# Altium integrated library Analog Devices Amplifiers and Linear Voltage References.IntLib: 547 symbols (part 11 of 20)
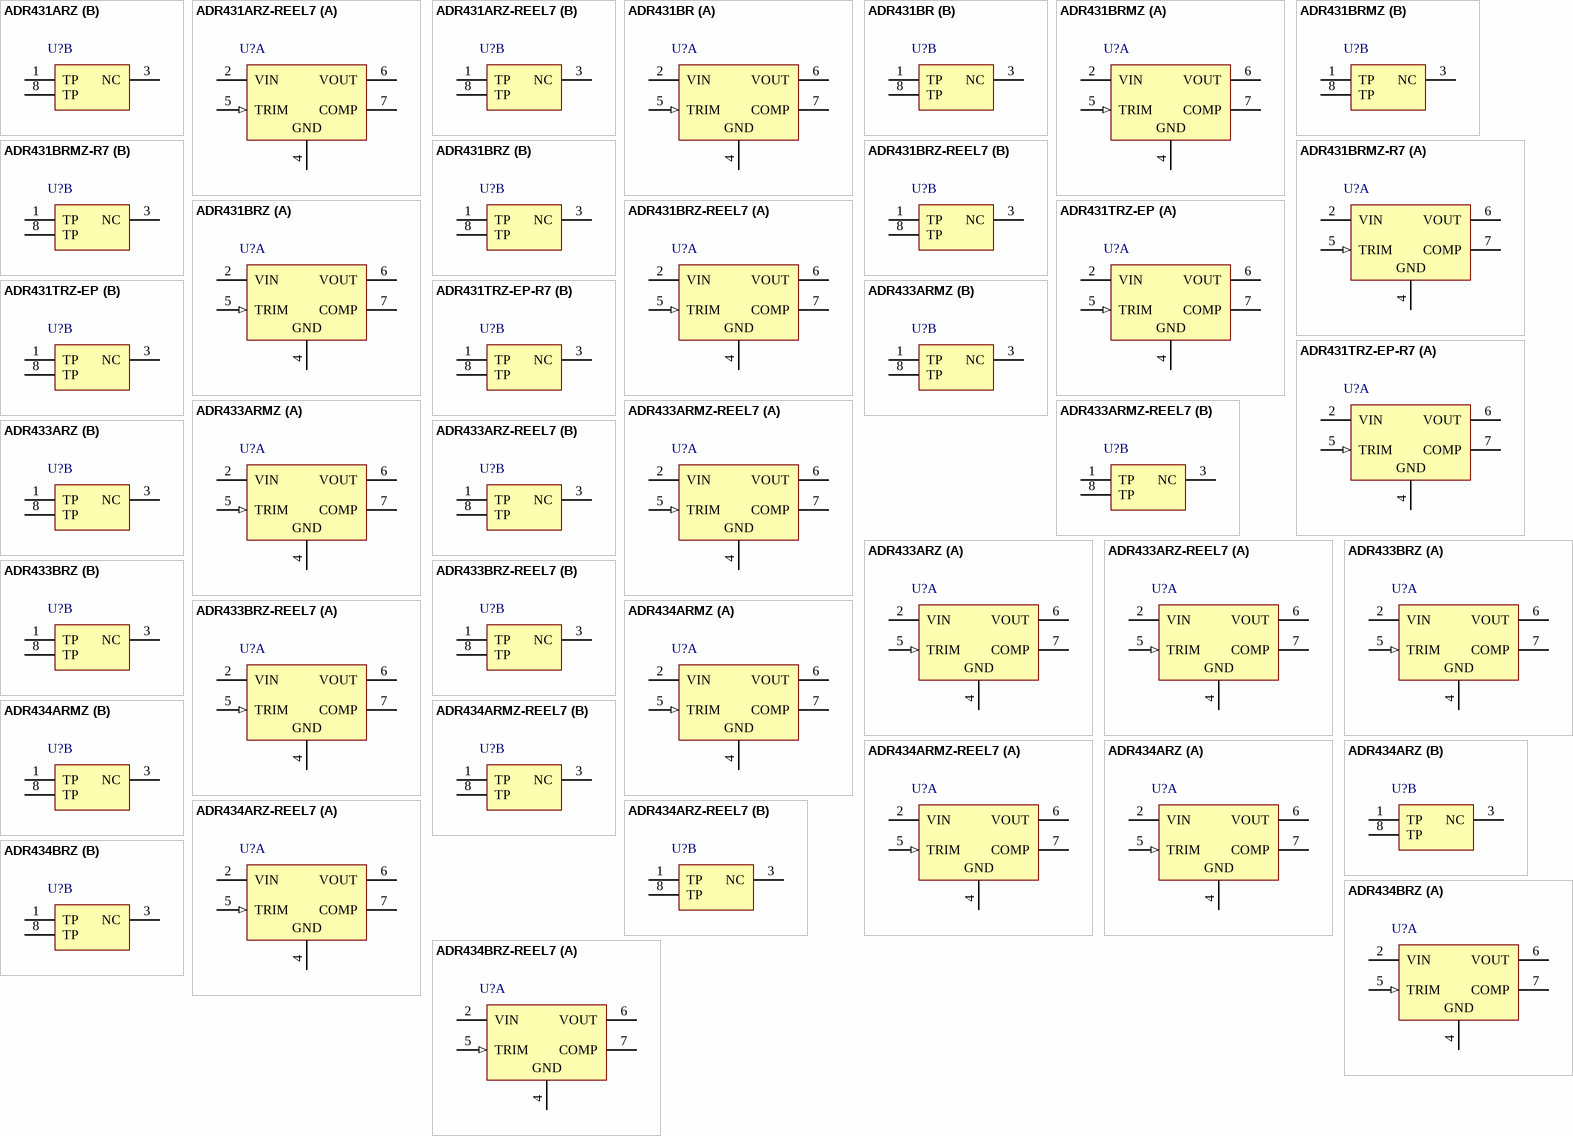
[diagram p30: symbols ADR431ARZ to ADR434BRZ-REEL7]

## ADR431BR
designator U?
Ultralow Noise XFET Voltage Reference with Current Sink and Source Capability, 2.5 V Output, 4.5 to 18 V Supply, Industrial, 8-pin SOIC (R-8), Tube; Manufacturer: Analog Devices; PartNumber: ADR431BR; Max V Supply (V): 18; Min V Supply (V): 4.5; Ref Out TC (ppm/C): 1; Vout: 2.5V; DatasheetVersion: Rev. J; PackageVersion: 060506-A, 06/2006; PackageReference: R-8; PackageDescription: 8-Pin Standard Small Outline Package, Body 4.9 x 3.9 mm, Pitch 1.27 mm; Supplier 1: Digi-Key; Supplier Part Number 1: ADR431BR-ND; Packing: Tube; Operating Temp Range: -40 to 125 degC; Mounting Technology: Surface Mount; Code_JEDEC: MS-012-AA; ComponentLink1Description: Manufacturer URL; ComponentLink1URL: http://www.analog.com/en/index.html; ComponentLink2Description: Datasheet; ComponentLink2URL: http://www.analog.com/static/imported-files/data_sheets/ADR430_431_433_434_435_439.pdf; ComponentLink3Description: Package Specification; ComponentLink3URL: http://www.analog.com/static/imported-files/packages/PKG_PDF/SOIC_Narrow%20(R)/R_8.pdf; ComponentLink4Description: URL Link1; ComponentLink4URL: Product URL:http://www.analog.com/en/special-linear-functions/voltage-references/adr431/products/product.html
footprint ADI-R-8_N (SOIC, 8-Leads, Body 4.9x3.9mm, Pitch 1.27mm, IPC Medium Density)
footprint ADI-R-8_L (SOIC, 8-Leads, Body 4.9x3.9mm, Pitch 1.27mm, IPC High Density)
footprint ADI-R-8_M (SOIC, 8-Leads, Body 4.9x3.9mm, Pitch 1.27mm, IPC Low Density)
part A pins: 2 VIN (power), 4 GND (power), 5 TRIM (in), 6 VOUT (power), 7 COMP
part B pins: 1 TP, 3 NC, 8 TP

## ADR431BRMZ
designator U?
Ultralow Noise XFET Voltage Reference with Current Sink and Source Capability, 2.5 V Output, 4.5 to 18 V Supply, Industrial, 8-pin SOP (RM-8), Tube; Manufacturer: Analog Devices; PartNumber: ADR431BRMZ; Max V Supply (V): 18; Min V Supply (V): 4.5; Ref Out TC (ppm/C): 1; Vout: 2.5V; DatasheetVersion: Rev. J; PackageVersion: Aug-05; PackageReference: RM-8; PackageDescription: 8-Pin Mini Small Outline Package, Body 3 x 3 mm, Pitch 0.65 mm; Supplier 1: Digi-Key; Supplier Part Number 1: ADR431BRMZ-ND; Supplier 2: Mouser; Supplier Part Number 2: 584-ADR431BRMZ; Packing: Tube; Operating Temp Range: -40 to 125 degC; Mounting Technology: Surface Mount; Code_JEDEC: MO-187-AA; ComponentLink1Description: Manufacturer URL; ComponentLink1URL: http://www.analog.com/en/index.html; ComponentLink2Description: Datasheet; ComponentLink2URL: http://www.analog.com/static/imported-files/data_sheets/ADR430_431_433_434_435_439.pdf; ComponentLink3Description: Package Specification; ComponentLink3URL: http://www.analog.com/static/imported-files/packages/PKG_PDF/MSOP%28RM%29/RM_8.pdf; ComponentLink4Description: URL Link1; ComponentLink4URL: Product URL:http://www.analog.com/en/special-linear-functions/voltage-references/adr431/products/product.html
footprint ADI-RM-8_N (SOP, 8-Leads, Body 3x3mm, Pitch 0.65mm, IPC Medium Density)
footprint ADI-RM-8_L (SOP, 8-Leads, Body 3x3mm, Pitch 0.65mm, IPC High Density)
footprint ADI-RM-8_M (SOP, 8-Leads, Body 3x3mm, Pitch 0.65mm, IPC Low Density)
part A pins: 2 VIN (power), 4 GND (power), 5 TRIM (in), 6 VOUT (power), 7 COMP
part B pins: 1 TP, 3 NC, 8 TP

## ADR431BRMZ-R7
designator U?
Ultralow Noise XFET Voltage Reference with Current Sink and Source Capability, 2.5 V Output, 4.5 to 18 V Supply, Industrial, 8-pin SOP (RM-8), Reel; Manufacturer: Analog Devices; PartNumber: ADR431BRMZ-R7; Max V Supply (V): 18; Min V Supply (V): 4.5; Ref Out TC (ppm/C): 1; Vout: 2.5V; DatasheetVersion: Rev. J; PackageVersion: Aug-05; PackageReference: RM-8; PackageDescription: 8-Pin Mini Small Outline Package, Body 3 x 3 mm, Pitch 0.65 mm; Supplier 1: Digi-Key; Supplier Part Number 1: ADR431BRMZ-R7-ND; Supplier 2: Mouser; Supplier Part Number 2: 584-ADR431BRMZ-R7; Packing: Reel; Operating Temp Range: -40 to 125 degC; Mounting Technology: Surface Mount; Code_JEDEC: MO-187-AA; ComponentLink1Description: Manufacturer URL; ComponentLink1URL: http://www.analog.com/en/index.html; ComponentLink2Description: Datasheet; ComponentLink2URL: http://www.analog.com/static/imported-files/data_sheets/ADR430_431_433_434_435_439.pdf; ComponentLink3Description: Package Specification; ComponentLink3URL: http://www.analog.com/static/imported-files/packages/PKG_PDF/MSOP%28RM%29/RM_8.pdf; ComponentLink4Description: URL Link1; ComponentLink4URL: Product URL:http://www.analog.com/en/special-linear-functions/voltage-references/adr431/products/product.html
footprint ADI-RM-8_N (SOP, 8-Leads, Body 3x3mm, Pitch 0.65mm, IPC Medium Density)
footprint ADI-RM-8_L (SOP, 8-Leads, Body 3x3mm, Pitch 0.65mm, IPC High Density)
footprint ADI-RM-8_M (SOP, 8-Leads, Body 3x3mm, Pitch 0.65mm, IPC Low Density)
part A pins: 2 VIN (power), 4 GND (power), 5 TRIM (in), 6 VOUT (power), 7 COMP
part B pins: 1 TP, 3 NC, 8 TP

## ADR431BRZ
designator U?
Ultralow Noise XFET Voltage Reference with Current Sink and Source Capability, 2.5 V Output, 4.5 to 18 V Supply, Industrial, 8-pin SOIC (R-8), Tube; Manufacturer: Analog Devices; PartNumber: ADR431BRZ; Max V Supply (V): 18; Min V Supply (V): 4.5; Ref Out TC (ppm/C): 1; Vout: 2.5V; DatasheetVersion: Rev. J; PackageVersion: 060506-A, 06/2006; PackageReference: R-8; PackageDescription: 8-Pin Standard Small Outline Package, Body 4.9 x 3.9 mm, Pitch 1.27 mm; Supplier 1: Digi-Key; Supplier Part Number 1: ADR431BRZ-ND; Supplier 2: Farnell; Supplier Part Number 2: 1498664; Supplier 3: Mouser; Supplier Part Number 3: 584-ADR431BRZ; Packing: Tube; Operating Temp Range: -40 to 125 degC; Mounting Technology: Surface Mount; Code_JEDEC: MS-012-AA; ComponentLink1Description: Manufacturer URL; ComponentLink1URL: http://www.analog.com/en/index.html; ComponentLink2Description: Datasheet; ComponentLink2URL: http://www.analog.com/static/imported-files/data_sheets/ADR430_431_433_434_435_439.pdf; ComponentLink3Description: Package Specification; ComponentLink3URL: http://www.analog.com/static/imported-files/packages/PKG_PDF/SOIC_Narrow%20(R)/R_8.pdf; ComponentLink4Description: URL Link1; ComponentLink4URL: Product URL:http://www.analog.com/en/special-linear-functions/voltage-references/adr431/products/product.html
footprint ADI-R-8_N (SOIC, 8-Leads, Body 4.9x3.9mm, Pitch 1.27mm, IPC Medium Density)
footprint ADI-R-8_L (SOIC, 8-Leads, Body 4.9x3.9mm, Pitch 1.27mm, IPC High Density)
footprint ADI-R-8_M (SOIC, 8-Leads, Body 4.9x3.9mm, Pitch 1.27mm, IPC Low Density)
part A pins: 2 VIN (power), 4 GND (power), 5 TRIM (in), 6 VOUT (power), 7 COMP
part B pins: 1 TP, 3 NC, 8 TP

## ADR431BRZ-REEL7
designator U?
Ultralow Noise XFET Voltage Reference with Current Sink and Source Capability, 2.5 V Output, 4.5 to 18 V Supply, Industrial, 8-pin SOIC (R-8), Reel; Manufacturer: Analog Devices; PartNumber: ADR431BRZ-REEL7; Max V Supply (V): 18; Min V Supply (V): 4.5; Ref Out TC (ppm/C): 1; Vout: 2.5V; DatasheetVersion: Rev. J; PackageVersion: 060506-A, 06/2006; PackageReference: R-8; PackageDescription: 8-Pin Standard Small Outline Package, Body 4.9 x 3.9 mm, Pitch 1.27 mm; Supplier 1: Digi-Key; Supplier Part Number 1: ADR431BRZ-REEL7TR-ND; Supplier 2: Digi-Key; Supplier Part Number 2: ADR431BRZ-REEL7CT-ND; Supplier 3: Digi-Key; Supplier Part Number 3: ADR431BRZ-REEL7DKR-ND; Supplier 4: Mouser; Supplier Part Number 4: 584-ADR431BRZ-R7; Packing: Reel; Operating Temp Range: -40 to 125 degC; Mounting Technology: Surface Mount; Code_JEDEC: MS-012-AA; ComponentLink1Description: Manufacturer URL; ComponentLink1URL: http://www.analog.com/en/index.html; ComponentLink2Description: Datasheet; ComponentLink2URL: http://www.analog.com/static/imported-files/data_sheets/ADR430_431_433_434_435_439.pdf; ComponentLink3Description: Package Specification; ComponentLink3URL: http://www.analog.com/static/imported-files/packages/PKG_PDF/SOIC_Narrow%20(R)/R_8.pdf; ComponentLink4Description: URL Link1; ComponentLink4URL: Product URL:http://www.analog.com/en/special-linear-functions/voltage-references/adr431/products/product.html
footprint ADI-R-8_N (SOIC, 8-Leads, Body 4.9x3.9mm, Pitch 1.27mm, IPC Medium Density)
footprint ADI-R-8_L (SOIC, 8-Leads, Body 4.9x3.9mm, Pitch 1.27mm, IPC High Density)
footprint ADI-R-8_M (SOIC, 8-Leads, Body 4.9x3.9mm, Pitch 1.27mm, IPC Low Density)
part A pins: 2 VIN (power), 4 GND (power), 5 TRIM (in), 6 VOUT (power), 7 COMP
part B pins: 1 TP, 3 NC, 8 TP

## ADR431TRZ-EP
designator U?
Ultralow Noise XFET Voltage Reference with Current Sink and Source Capability, 2.5 V Output, 4.5 to 18 V Supply, Military, 8-pin SOIC (R-8), Tube; Manufacturer: Analog Devices; PartNumber: ADR431TRZ-EP; Max V Supply (V): 18; Min V Supply (V): 4.5; Ref Out TC (ppm/C): 1.5; Vout: 2.5V; DatasheetVersion: Rev. J; PackageVersion: 060506-A, 06/2006; PackageReference: R-8; PackageDescription: 8-Pin Standard Small Outline Package, Body 4.9 x 3.9 mm, Pitch 1.27 mm; Supplier 1: Mouser; Supplier Part Number 1: 584-ADR431TRZ-EP; Packing: Tube; Operating Temp Range: -40 to 125 degC; Mounting Technology: Surface Mount; Code_JEDEC: MS-012-AA; ComponentLink1Description: Manufacturer URL; ComponentLink1URL: http://www.analog.com/en/index.html; ComponentLink2Description: Datasheet; ComponentLink2URL: http://www.analog.com/static/imported-files/data_sheets/ADR430_431_433_434_435_439.pdf; ComponentLink3Description: Package Specification; ComponentLink3URL: http://www.analog.com/static/imported-files/packages/PKG_PDF/SOIC_Narrow%20(R)/R_8.pdf; ComponentLink4Description: URL Link1; ComponentLink4URL: Product URL:http://www.analog.com/en/special-linear-functions/voltage-references/adr431/products/product.html
footprint ADI-R-8_N (SOIC, 8-Leads, Body 4.9x3.9mm, Pitch 1.27mm, IPC Medium Density)
footprint ADI-R-8_L (SOIC, 8-Leads, Body 4.9x3.9mm, Pitch 1.27mm, IPC High Density)
footprint ADI-R-8_M (SOIC, 8-Leads, Body 4.9x3.9mm, Pitch 1.27mm, IPC Low Density)
part A pins: 2 VIN (power), 4 GND (power), 5 TRIM (in), 6 VOUT (power), 7 COMP
part B pins: 1 TP, 3 NC, 8 TP

## ADR431TRZ-EP-R7
designator U?
Ultralow Noise XFET Voltage Reference with Current Sink and Source Capability, 2.5 V Output, 4.5 to 18 V Supply, Military, 8-pin SOIC (R-8), Reel; Manufacturer: Analog Devices; PartNumber: ADR431TRZ-EP-R7; Max V Supply (V): 18; Min V Supply (V): 4.5; Ref Out TC (ppm/C): 1.5; Vout: 2.5V; DatasheetVersion: Rev. J; PackageVersion: 060506-A, 06/2006; PackageReference: R-8; PackageDescription: 8-Pin Standard Small Outline Package, Body 4.9 x 3.9 mm, Pitch 1.27 mm; Supplier 1: Digi-Key; Supplier Part Number 1: ADR431TRZ-EP-R7TR-ND; Supplier 2: Digi-Key; Supplier Part Number 2: ADR431TRZ-EP-R7CT-ND; Supplier 3: Digi-Key; Supplier Part Number 3: ADR431TRZ-EP-R7DKR-ND; Supplier 4: Mouser; Supplier Part Number 4: 584-ADR431TRZ-EP-R7; Packing: Reel; Operating Temp Range: -40 to 125 degC; Mounting Technology: Surface Mount; Code_JEDEC: MS-012-AA; ComponentLink1Description: Manufacturer URL; ComponentLink1URL: http://www.analog.com/en/index.html; ComponentLink2Description: Datasheet; ComponentLink2URL: http://www.analog.com/static/imported-files/data_sheets/ADR430_431_433_434_435_439.pdf; ComponentLink3Description: Package Specification; ComponentLink3URL: http://www.analog.com/static/imported-files/packages/PKG_PDF/SOIC_Narrow%20(R)/R_8.pdf; ComponentLink4Description: URL Link1; ComponentLink4URL: Product URL:http://www.analog.com/en/special-linear-functions/voltage-references/adr431/products/product.html
footprint ADI-R-8_N (SOIC, 8-Leads, Body 4.9x3.9mm, Pitch 1.27mm, IPC Medium Density)
footprint ADI-R-8_L (SOIC, 8-Leads, Body 4.9x3.9mm, Pitch 1.27mm, IPC High Density)
footprint ADI-R-8_M (SOIC, 8-Leads, Body 4.9x3.9mm, Pitch 1.27mm, IPC Low Density)
part A pins: 2 VIN (power), 4 GND (power), 5 TRIM (in), 6 VOUT (power), 7 COMP
part B pins: 1 TP, 3 NC, 8 TP

## ADR433ARMZ
designator U?
Ultralow Noise XFET Voltage Reference with Current Sink and Source Capability, 3 V Output, 5 to 18 V Supply, Industrial, 8-pin SOP (RM-8), Tube; Manufacturer: Analog Devices; PartNumber: ADR433ARMZ; Max V Supply (V): 18; Min V Supply (V): 5; Ref Out TC (ppm/C): 2; Vout: 3V; DatasheetVersion: Rev. J; PackageVersion: Aug-05; PackageReference: RM-8; PackageDescription: 8-Pin Mini Small Outline Package, Body 3 x 3 mm, Pitch 0.65 mm; Supplier 1: Digi-Key; Supplier Part Number 1: ADR433ARMZ-ND; Supplier 2: Farnell; Supplier Part Number 2: 2312795; Supplier 3: Mouser; Supplier Part Number 3: 584-ADR433ARMZ; Packing: Tube; Operating Temp Range: -40 to 125 degC; Mounting Technology: Surface Mount; Code_JEDEC: MO-187-AA; ComponentLink1Description: Manufacturer URL; ComponentLink1URL: http://www.analog.com/en/index.html; ComponentLink2Description: Datasheet; ComponentLink2URL: http://www.analog.com/static/imported-files/data_sheets/ADR430_431_433_434_435_439.pdf; ComponentLink3Description: Package Specification; ComponentLink3URL: http://www.analog.com/static/imported-files/packages/PKG_PDF/MSOP%28RM%29/RM_8.pdf; ComponentLink4Description: URL Link1; ComponentLink4URL: Product URL:http://www.analog.com/en/special-linear-functions/voltage-references/adr433/products/product.html
footprint ADI-RM-8_N (SOP, 8-Leads, Body 3x3mm, Pitch 0.65mm, IPC Medium Density)
footprint ADI-RM-8_L (SOP, 8-Leads, Body 3x3mm, Pitch 0.65mm, IPC High Density)
footprint ADI-RM-8_M (SOP, 8-Leads, Body 3x3mm, Pitch 0.65mm, IPC Low Density)
part A pins: 2 VIN (power), 4 GND (power), 5 TRIM (in), 6 VOUT (power), 7 COMP
part B pins: 1 TP, 3 NC, 8 TP

## ADR433ARMZ-REEL7
designator U?
Ultralow Noise XFET Voltage Reference with Current Sink and Source Capability, 3 V Output, 5 to 18 V Supply, Industrial, 8-pin SOP (RM-8), Reel; Manufacturer: Analog Devices; PartNumber: ADR433ARMZ-REEL7; Max V Supply (V): 18; Min V Supply (V): 5; Ref Out TC (ppm/C): 2; Vout: 3V; DatasheetVersion: Rev. J; PackageVersion: Aug-05; PackageReference: RM-8; PackageDescription: 8-Pin Mini Small Outline Package, Body 3 x 3 mm, Pitch 0.65 mm; Supplier 1: Digi-Key; Supplier Part Number 1: ADR433ARMZ-REEL7-ND; Supplier 2: Mouser; Supplier Part Number 2: 584-ADR433ARMZ-R7; Packing: Reel; Operating Temp Range: -40 to 125 degC; Mounting Technology: Surface Mount; Code_JEDEC: MO-187-AA; ComponentLink1Description: Manufacturer URL; ComponentLink1URL: http://www.analog.com/en/index.html; ComponentLink2Description: Datasheet; ComponentLink2URL: http://www.analog.com/static/imported-files/data_sheets/ADR430_431_433_434_435_439.pdf; ComponentLink3Description: Package Specification; ComponentLink3URL: http://www.analog.com/static/imported-files/packages/PKG_PDF/MSOP%28RM%29/RM_8.pdf; ComponentLink4Description: URL Link1; ComponentLink4URL: Product URL:http://www.analog.com/en/special-linear-functions/voltage-references/adr433/products/product.html
footprint ADI-RM-8_N (SOP, 8-Leads, Body 3x3mm, Pitch 0.65mm, IPC Medium Density)
footprint ADI-RM-8_L (SOP, 8-Leads, Body 3x3mm, Pitch 0.65mm, IPC High Density)
footprint ADI-RM-8_M (SOP, 8-Leads, Body 3x3mm, Pitch 0.65mm, IPC Low Density)
part A pins: 2 VIN (power), 4 GND (power), 5 TRIM (in), 6 VOUT (power), 7 COMP
part B pins: 1 TP, 3 NC, 8 TP

## ADR433ARZ
designator U?
Ultralow Noise XFET Voltage Reference with Current Sink and Source Capability, 3 V Output, 5 to 18 V Supply, Industrial, 8-pin SOIC (R-8), Tube; Manufacturer: Analog Devices; PartNumber: ADR433ARZ; Max V Supply (V): 18; Min V Supply (V): 5; Ref Out TC (ppm/C): 2; Vout: 3V; DatasheetVersion: Rev. J; PackageVersion: 060506-A, 06/2006; PackageReference: R-8; PackageDescription: 8-Pin Standard Small Outline Package, Body 4.9 x 3.9 mm, Pitch 1.27 mm; Supplier 1: Digi-Key; Supplier Part Number 1: ADR433ARZ-ND; Supplier 2: Farnell; Supplier Part Number 2: 1498665; Supplier 3: Mouser; Supplier Part Number 3: 584-ADR433ARZ; Packing: Tube; Operating Temp Range: -40 to 125 degC; Mounting Technology: Surface Mount; Code_JEDEC: MS-012-AA; ComponentLink1Description: Manufacturer URL; ComponentLink1URL: http://www.analog.com/en/index.html; ComponentLink2Description: Datasheet; ComponentLink2URL: http://www.analog.com/static/imported-files/data_sheets/ADR430_431_433_434_435_439.pdf; ComponentLink3Description: Package Specification; ComponentLink3URL: http://www.analog.com/static/imported-files/packages/PKG_PDF/SOIC_Narrow%20(R)/R_8.pdf; ComponentLink4Description: URL Link1; ComponentLink4URL: Product URL:http://www.analog.com/en/special-linear-functions/voltage-references/adr433/products/product.html
footprint ADI-R-8_N (SOIC, 8-Leads, Body 4.9x3.9mm, Pitch 1.27mm, IPC Medium Density)
footprint ADI-R-8_L (SOIC, 8-Leads, Body 4.9x3.9mm, Pitch 1.27mm, IPC High Density)
footprint ADI-R-8_M (SOIC, 8-Leads, Body 4.9x3.9mm, Pitch 1.27mm, IPC Low Density)
part A pins: 2 VIN (power), 4 GND (power), 5 TRIM (in), 6 VOUT (power), 7 COMP
part B pins: 1 TP, 3 NC, 8 TP

## ADR433ARZ-REEL7
designator U?
Ultralow Noise XFET Voltage Reference with Current Sink and Source Capability, 3 V Output, 5 to 18 V Supply, Industrial, 8-pin SOIC (R-8), Reel; Manufacturer: Analog Devices; PartNumber: ADR433ARZ-REEL7; Max V Supply (V): 18; Min V Supply (V): 5; Ref Out TC (ppm/C): 2; Vout: 3V; DatasheetVersion: Rev. J; PackageVersion: 060506-A, 06/2006; PackageReference: R-8; PackageDescription: 8-Pin Standard Small Outline Package, Body 4.9 x 3.9 mm, Pitch 1.27 mm; Supplier 1: Digi-Key; Supplier Part Number 1: ADR433ARZ-REEL7-ND; Supplier 2: Mouser; Supplier Part Number 2: 584-ADR433ARZ-R7; Packing: Reel; Operating Temp Range: -40 to 125 degC; Mounting Technology: Surface Mount; Code_JEDEC: MS-012-AA; ComponentLink1Description: Manufacturer URL; ComponentLink1URL: http://www.analog.com/en/index.html; ComponentLink2Description: Datasheet; ComponentLink2URL: http://www.analog.com/static/imported-files/data_sheets/ADR430_431_433_434_435_439.pdf; ComponentLink3Description: Package Specification; ComponentLink3URL: http://www.analog.com/static/imported-files/packages/PKG_PDF/SOIC_Narrow%20(R)/R_8.pdf; ComponentLink4Description: URL Link1; ComponentLink4URL: Product URL:http://www.analog.com/en/special-linear-functions/voltage-references/adr433/products/product.html
footprint ADI-R-8_N (SOIC, 8-Leads, Body 4.9x3.9mm, Pitch 1.27mm, IPC Medium Density)
footprint ADI-R-8_L (SOIC, 8-Leads, Body 4.9x3.9mm, Pitch 1.27mm, IPC High Density)
footprint ADI-R-8_M (SOIC, 8-Leads, Body 4.9x3.9mm, Pitch 1.27mm, IPC Low Density)
part A pins: 2 VIN (power), 4 GND (power), 5 TRIM (in), 6 VOUT (power), 7 COMP
part B pins: 1 TP, 3 NC, 8 TP

## ADR433BRZ
designator U?
Ultralow Noise XFET Voltage Reference with Current Sink and Source Capability, 3 V Output, 5 to 18 V Supply, Industrial, 8-pin SOIC (R-8), Tube; Manufacturer: Analog Devices; PartNumber: ADR433BRZ; Max V Supply (V): 18; Min V Supply (V): 5; Ref Out TC (ppm/C): 1; Vout: 3V; DatasheetVersion: Rev. J; PackageVersion: 060506-A, 06/2006; PackageReference: R-8; PackageDescription: 8-Pin Standard Small Outline Package, Body 4.9 x 3.9 mm, Pitch 1.27 mm; Supplier 1: Digi-Key; Supplier Part Number 1: ADR433BRZ-ND; Supplier 2: Farnell; Supplier Part Number 2: 1498667; Supplier 3: Mouser; Supplier Part Number 3: 584-ADR433BRZ; Packing: Tube; Operating Temp Range: -40 to 125 degC; Mounting Technology: Surface Mount; Code_JEDEC: MS-012-AA; ComponentLink1Description: Manufacturer URL; ComponentLink1URL: http://www.analog.com/en/index.html; ComponentLink2Description: Datasheet; ComponentLink2URL: http://www.analog.com/static/imported-files/data_sheets/ADR430_431_433_434_435_439.pdf; ComponentLink3Description: Package Specification; ComponentLink3URL: http://www.analog.com/static/imported-files/packages/PKG_PDF/SOIC_Narrow%20(R)/R_8.pdf; ComponentLink4Description: URL Link1; ComponentLink4URL: Product URL:http://www.analog.com/en/special-linear-functions/voltage-references/adr433/products/product.html
footprint ADI-R-8_N (SOIC, 8-Leads, Body 4.9x3.9mm, Pitch 1.27mm, IPC Medium Density)
footprint ADI-R-8_L (SOIC, 8-Leads, Body 4.9x3.9mm, Pitch 1.27mm, IPC High Density)
footprint ADI-R-8_M (SOIC, 8-Leads, Body 4.9x3.9mm, Pitch 1.27mm, IPC Low Density)
part A pins: 2 VIN (power), 4 GND (power), 5 TRIM (in), 6 VOUT (power), 7 COMP
part B pins: 1 TP, 3 NC, 8 TP

## ADR433BRZ-REEL7
designator U?
Ultralow Noise XFET Voltage Reference with Current Sink and Source Capability, 3 V Output, 5 to 18 V Supply, Industrial, 8-pin SOIC (R-8), Reel; Manufacturer: Analog Devices; PartNumber: ADR433BRZ-REEL7; Max V Supply (V): 18; Min V Supply (V): 5; Ref Out TC (ppm/C): 1; Vout: 3V; DatasheetVersion: Rev. J; PackageVersion: 060506-A, 06/2006; PackageReference: R-8; PackageDescription: 8-Pin Standard Small Outline Package, Body 4.9 x 3.9 mm, Pitch 1.27 mm; Supplier 1: Digi-Key; Supplier Part Number 1: ADR433BRZ-REEL7-ND; Supplier 2: Mouser; Supplier Part Number 2: 584-ADR433BRZ-R7; Packing: Reel; Operating Temp Range: -40 to 125 degC; Mounting Technology: Surface Mount; Code_JEDEC: MS-012-AA; ComponentLink1Description: Manufacturer URL; ComponentLink1URL: http://www.analog.com/en/index.html; ComponentLink2Description: Datasheet; ComponentLink2URL: http://www.analog.com/static/imported-files/data_sheets/ADR430_431_433_434_435_439.pdf; ComponentLink3Description: Package Specification; ComponentLink3URL: http://www.analog.com/static/imported-files/packages/PKG_PDF/SOIC_Narrow%20(R)/R_8.pdf; ComponentLink4Description: URL Link1; ComponentLink4URL: Product URL:http://www.analog.com/en/special-linear-functions/voltage-references/adr433/products/product.html
footprint ADI-R-8_N (SOIC, 8-Leads, Body 4.9x3.9mm, Pitch 1.27mm, IPC Medium Density)
footprint ADI-R-8_L (SOIC, 8-Leads, Body 4.9x3.9mm, Pitch 1.27mm, IPC High Density)
footprint ADI-R-8_M (SOIC, 8-Leads, Body 4.9x3.9mm, Pitch 1.27mm, IPC Low Density)
part A pins: 2 VIN (power), 4 GND (power), 5 TRIM (in), 6 VOUT (power), 7 COMP
part B pins: 1 TP, 3 NC, 8 TP

## ADR434ARMZ
designator U?
Ultralow Noise XFET Voltage Reference with Current Sink and Source Capability, 4.096 V Output, 6.1 to 18 V Supply, Industrial, 8-pin SOP (RM-8), Tube; Manufacturer: Analog Devices; PartNumber: ADR434ARMZ; Max V Supply (V): 18; Min V Supply (V): 6.1; Ref Out TC (ppm/C): 2; Vout: 4.096V; DatasheetVersion: Rev. J; PackageVersion: Aug-05; PackageReference: RM-8; PackageDescription: 8-Pin Mini Small Outline Package, Body 3 x 3 mm, Pitch 0.65 mm; Supplier 1: Digi-Key; Supplier Part Number 1: ADR434ARMZ-ND; Supplier 2: Farnell; Supplier Part Number 2: 2377048; Supplier 3: Farnell; Supplier Part Number 3: 2312796; Supplier 4: Mouser; Supplier Part Number 4: 584-ADR434ARMZ; Packing: Tube; Operating Temp Range: -40 to 125 degC; Mounting Technology: Surface Mount; Code_JEDEC: MO-187-AA; ComponentLink1Description: Manufacturer URL; ComponentLink1URL: http://www.analog.com/en/index.html; ComponentLink2Description: Datasheet; ComponentLink2URL: http://www.analog.com/static/imported-files/data_sheets/ADR430_431_433_434_435_439.pdf; ComponentLink3Description: Package Specification; ComponentLink3URL: http://www.analog.com/static/imported-files/packages/PKG_PDF/MSOP%28RM%29/RM_8.pdf; ComponentLink4Description: URL Link1; ComponentLink4URL: Product URL:http://www.analog.com/en/special-linear-functions/voltage-references/adr434/products/product.html
footprint ADI-RM-8_N (SOP, 8-Leads, Body 3x3mm, Pitch 0.65mm, IPC Medium Density)
footprint ADI-RM-8_L (SOP, 8-Leads, Body 3x3mm, Pitch 0.65mm, IPC High Density)
footprint ADI-RM-8_M (SOP, 8-Leads, Body 3x3mm, Pitch 0.65mm, IPC Low Density)
part A pins: 2 VIN (power), 4 GND (power), 5 TRIM (in), 6 VOUT (power), 7 COMP
part B pins: 1 TP, 3 NC, 8 TP

## ADR434ARMZ-REEL7
designator U?
Ultralow Noise XFET Voltage Reference with Current Sink and Source Capability, 4.096 V Output, 6.1 to 18 V Supply, Industrial, 8-pin SOP (RM-8), Reel; Manufacturer: Analog Devices; PartNumber: ADR434ARMZ-REEL7; Max V Supply (V): 18; Min V Supply (V): 6.1; Ref Out TC (ppm/C): 2; Vout: 4.096V; DatasheetVersion: Rev. J; PackageVersion: Aug-05; PackageReference: RM-8; PackageDescription: 8-Pin Mini Small Outline Package, Body 3 x 3 mm, Pitch 0.65 mm; Supplier 1: Digi-Key; Supplier Part Number 1: ADR434ARMZ-REEL7-ND; Supplier 2: Mouser; Supplier Part Number 2: 584-ADR434ARMZ-R7; Packing: Reel; Operating Temp Range: -40 to 125 degC; Mounting Technology: Surface Mount; Code_JEDEC: MO-187-AA; ComponentLink1Description: Manufacturer URL; ComponentLink1URL: http://www.analog.com/en/index.html; ComponentLink2Description: Datasheet; ComponentLink2URL: http://www.analog.com/static/imported-files/data_sheets/ADR430_431_433_434_435_439.pdf; ComponentLink3Description: Package Specification; ComponentLink3URL: http://www.analog.com/static/imported-files/packages/PKG_PDF/MSOP%28RM%29/RM_8.pdf; ComponentLink4Description: URL Link1; ComponentLink4URL: Product URL:http://www.analog.com/en/special-linear-functions/voltage-references/adr434/products/product.html
footprint ADI-RM-8_N (SOP, 8-Leads, Body 3x3mm, Pitch 0.65mm, IPC Medium Density)
footprint ADI-RM-8_L (SOP, 8-Leads, Body 3x3mm, Pitch 0.65mm, IPC High Density)
footprint ADI-RM-8_M (SOP, 8-Leads, Body 3x3mm, Pitch 0.65mm, IPC Low Density)
part A pins: 2 VIN (power), 4 GND (power), 5 TRIM (in), 6 VOUT (power), 7 COMP
part B pins: 1 TP, 3 NC, 8 TP

## ADR434ARZ
designator U?
Ultralow Noise XFET Voltage Reference with Current Sink and Source Capability, 4.096 V Output, 6.1 to 18 V Supply, Industrial, 8-pin SOIC (R-8), Tube; Manufacturer: Analog Devices; PartNumber: ADR434ARZ; Max V Supply (V): 18; Min V Supply (V): 6.1; Ref Out TC (ppm/C): 2; Vout: 4.096V; DatasheetVersion: Rev. J; PackageVersion: 060506-A, 06/2006; PackageReference: R-8; PackageDescription: 8-Pin Standard Small Outline Package, Body 4.9 x 3.9 mm, Pitch 1.27 mm; Supplier 1: Digi-Key; Supplier Part Number 1: ADR434ARZ-ND; Supplier 2: Farnell; Supplier Part Number 2: 1438994; Supplier 3: Mouser; Supplier Part Number 3: 584-ADR434ARZ; Packing: Tube; Operating Temp Range: -40 to 125 degC; Mounting Technology: Surface Mount; Code_JEDEC: MS-012-AA; ComponentLink1Description: Manufacturer URL; ComponentLink1URL: http://www.analog.com/en/index.html; ComponentLink2Description: Datasheet; ComponentLink2URL: http://www.analog.com/static/imported-files/data_sheets/ADR430_431_433_434_435_439.pdf; ComponentLink3Description: Package Specification; ComponentLink3URL: http://www.analog.com/static/imported-files/packages/PKG_PDF/SOIC_Narrow%20(R)/R_8.pdf; ComponentLink4Description: URL Link1; ComponentLink4URL: Product URL:http://www.analog.com/en/special-linear-functions/voltage-references/adr434/products/product.html
footprint ADI-R-8_N (SOIC, 8-Leads, Body 4.9x3.9mm, Pitch 1.27mm, IPC Medium Density)
footprint ADI-R-8_L (SOIC, 8-Leads, Body 4.9x3.9mm, Pitch 1.27mm, IPC High Density)
footprint ADI-R-8_M (SOIC, 8-Leads, Body 4.9x3.9mm, Pitch 1.27mm, IPC Low Density)
part A pins: 2 VIN (power), 4 GND (power), 5 TRIM (in), 6 VOUT (power), 7 COMP
part B pins: 1 TP, 3 NC, 8 TP

## ADR434ARZ-REEL7
designator U?
Ultralow Noise XFET Voltage Reference with Current Sink and Source Capability, 4.096 V Output, 6.1 to 18 V Supply, Industrial, 8-pin SOIC (R-8), Reel; Manufacturer: Analog Devices; PartNumber: ADR434ARZ-REEL7; Max V Supply (V): 18; Min V Supply (V): 6.1; Ref Out TC (ppm/C): 2; Vout: 4.096V; DatasheetVersion: Rev. J; PackageVersion: 060506-A, 06/2006; PackageReference: R-8; PackageDescription: 8-Pin Standard Small Outline Package, Body 4.9 x 3.9 mm, Pitch 1.27 mm; Supplier 1: Digi-Key; Supplier Part Number 1: ADR434ARZ-REEL7-ND; Supplier 2: Mouser; Supplier Part Number 2: 584-ADR434ARZ-R7; Packing: Reel; Operating Temp Range: -40 to 125 degC; Mounting Technology: Surface Mount; Code_JEDEC: MS-012-AA; ComponentLink1Description: Manufacturer URL; ComponentLink1URL: http://www.analog.com/en/index.html; ComponentLink2Description: Datasheet; ComponentLink2URL: http://www.analog.com/static/imported-files/data_sheets/ADR430_431_433_434_435_439.pdf; ComponentLink3Description: Package Specification; ComponentLink3URL: http://www.analog.com/static/imported-files/packages/PKG_PDF/SOIC_Narrow%20(R)/R_8.pdf; ComponentLink4Description: URL Link1; ComponentLink4URL: Product URL:http://www.analog.com/en/special-linear-functions/voltage-references/adr434/products/product.html
footprint ADI-R-8_N (SOIC, 8-Leads, Body 4.9x3.9mm, Pitch 1.27mm, IPC Medium Density)
footprint ADI-R-8_L (SOIC, 8-Leads, Body 4.9x3.9mm, Pitch 1.27mm, IPC High Density)
footprint ADI-R-8_M (SOIC, 8-Leads, Body 4.9x3.9mm, Pitch 1.27mm, IPC Low Density)
part A pins: 2 VIN (power), 4 GND (power), 5 TRIM (in), 6 VOUT (power), 7 COMP
part B pins: 1 TP, 3 NC, 8 TP

## ADR434BRZ
designator U?
Ultralow Noise XFET Voltage Reference with Current Sink and Source Capability, 4.096 V Output, 6.1 to 18 V Supply, Industrial, 8-pin SOIC (R-8), Tube; Manufacturer: Analog Devices; PartNumber: ADR434BRZ; Max V Supply (V): 18; Min V Supply (V): 6.1; Ref Out TC (ppm/C): 1; Vout: 4.096V; DatasheetVersion: Rev. J; PackageVersion: 060506-A, 06/2006; PackageReference: R-8; PackageDescription: 8-Pin Standard Small Outline Package, Body 4.9 x 3.9 mm, Pitch 1.27 mm; Supplier 1: Digi-Key; Supplier Part Number 1: ADR434BRZ-ND; Supplier 2: Farnell; Supplier Part Number 2: 2112645; Supplier 3: Mouser; Supplier Part Number 3: 584-ADR434BRZ; Packing: Tube; Operating Temp Range: -40 to 125 degC; Mounting Technology: Surface Mount; Code_JEDEC: MS-012-AA; ComponentLink1Description: Manufacturer URL; ComponentLink1URL: http://www.analog.com/en/index.html; ComponentLink2Description: Datasheet; ComponentLink2URL: http://www.analog.com/static/imported-files/data_sheets/ADR430_431_433_434_435_439.pdf; ComponentLink3Description: Package Specification; ComponentLink3URL: http://www.analog.com/static/imported-files/packages/PKG_PDF/SOIC_Narrow%20(R)/R_8.pdf; ComponentLink4Description: URL Link1; ComponentLink4URL: Product URL:http://www.analog.com/en/special-linear-functions/voltage-references/adr434/products/product.html
footprint ADI-R-8_N (SOIC, 8-Leads, Body 4.9x3.9mm, Pitch 1.27mm, IPC Medium Density)
footprint ADI-R-8_L (SOIC, 8-Leads, Body 4.9x3.9mm, Pitch 1.27mm, IPC High Density)
footprint ADI-R-8_M (SOIC, 8-Leads, Body 4.9x3.9mm, Pitch 1.27mm, IPC Low Density)
part A pins: 2 VIN (power), 4 GND (power), 5 TRIM (in), 6 VOUT (power), 7 COMP
part B pins: 1 TP, 3 NC, 8 TP

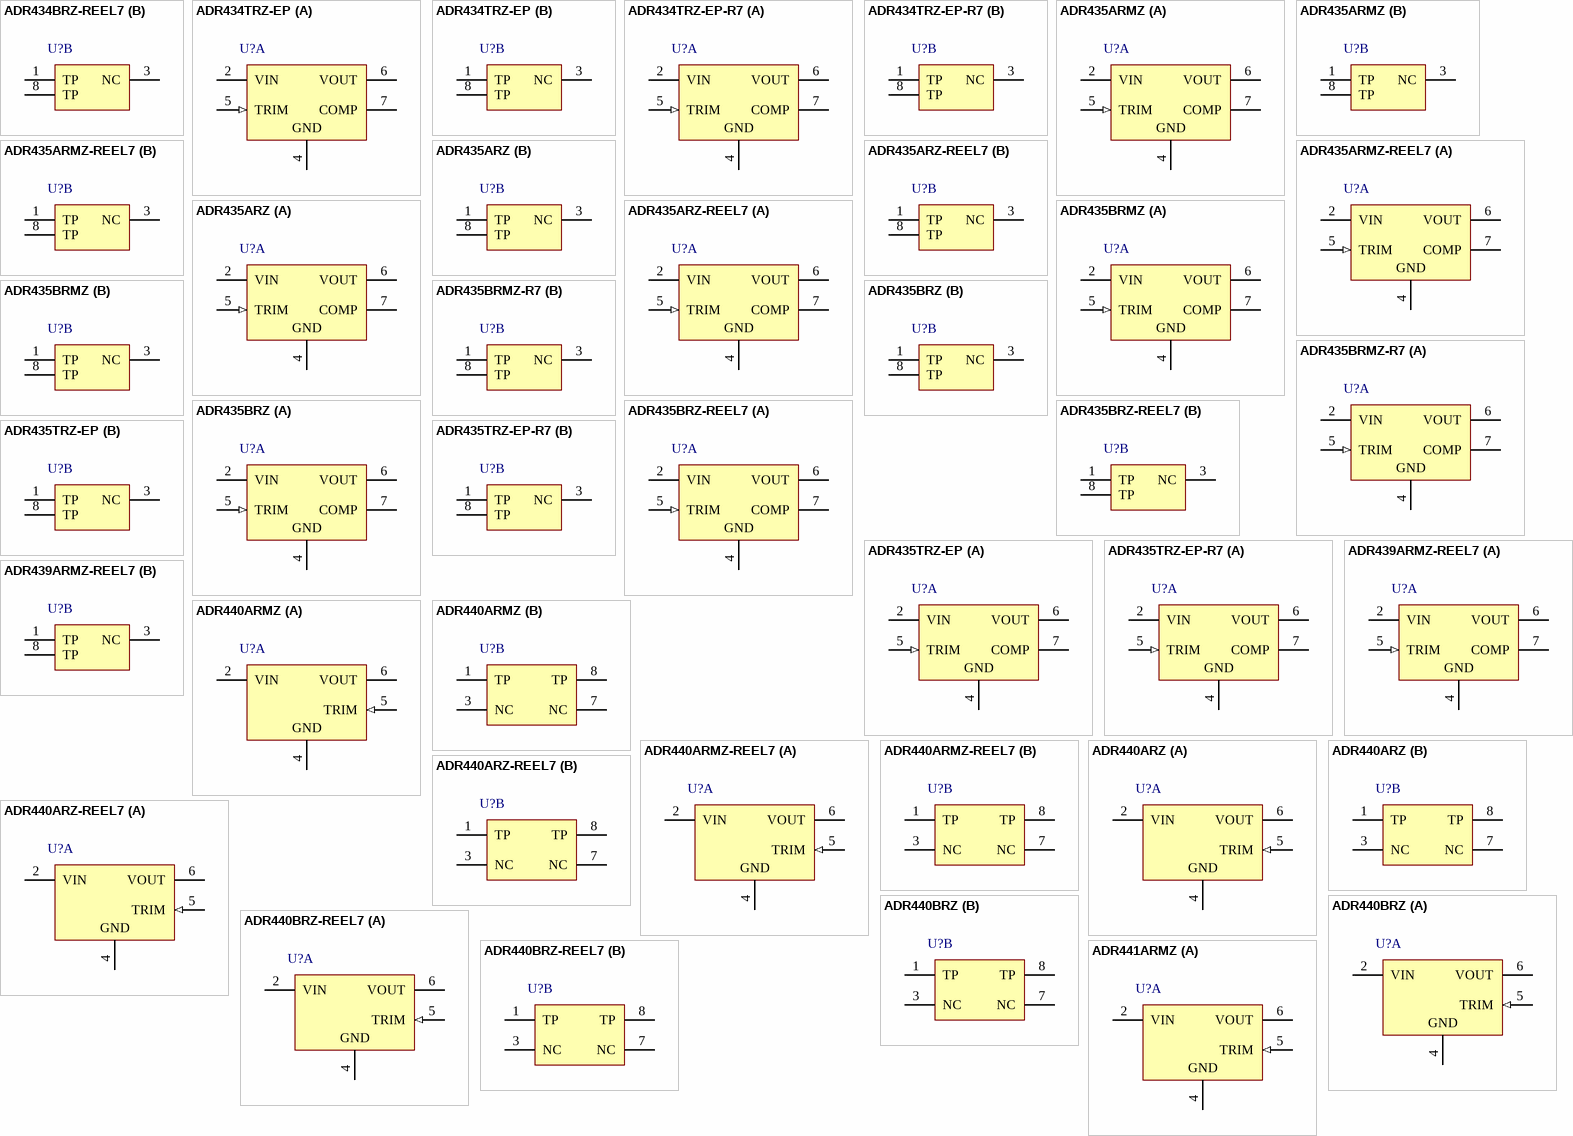
[diagram p12: symbols ADR434BRZ-REEL7 to ADR441ARMZ]

## ADR434BRZ-REEL7
designator U?
Ultralow Noise XFET Voltage Reference with Current Sink and Source Capability, 4.096 V Output, 6.1 to 18 V Supply, Industrial, 8-pin SOIC (R-8), Reel; Manufacturer: Analog Devices; PartNumber: ADR434BRZ-REEL7; Max V Supply (V): 18; Min V Supply (V): 6.1; Ref Out TC (ppm/C): 1; Vout: 4.096V; DatasheetVersion: Rev. J; PackageVersion: 060506-A, 06/2006; PackageReference: R-8; PackageDescription: 8-Pin Standard Small Outline Package, Body 4.9 x 3.9 mm, Pitch 1.27 mm; Supplier 1: Digi-Key; Supplier Part Number 1: ADR434BRZ-REEL7-ND; Supplier 2: Mouser; Supplier Part Number 2: 584-ADR434BRZ-R7; Packing: Reel; Operating Temp Range: -40 to 125 degC; Mounting Technology: Surface Mount; Code_JEDEC: MS-012-AA; ComponentLink1Description: Manufacturer URL; ComponentLink1URL: http://www.analog.com/en/index.html; ComponentLink2Description: Datasheet; ComponentLink2URL: http://www.analog.com/static/imported-files/data_sheets/ADR430_431_433_434_435_439.pdf; ComponentLink3Description: Package Specification; ComponentLink3URL: http://www.analog.com/static/imported-files/packages/PKG_PDF/SOIC_Narrow%20(R)/R_8.pdf; ComponentLink4Description: URL Link1; ComponentLink4URL: Product URL:http://www.analog.com/en/special-linear-functions/voltage-references/adr434/products/product.html
footprint ADI-R-8_N (SOIC, 8-Leads, Body 4.9x3.9mm, Pitch 1.27mm, IPC Medium Density)
footprint ADI-R-8_L (SOIC, 8-Leads, Body 4.9x3.9mm, Pitch 1.27mm, IPC High Density)
footprint ADI-R-8_M (SOIC, 8-Leads, Body 4.9x3.9mm, Pitch 1.27mm, IPC Low Density)
part A pins: 2 VIN (power), 4 GND (power), 5 TRIM (in), 6 VOUT (power), 7 COMP
part B pins: 1 TP, 3 NC, 8 TP

## ADR434TRZ-EP
designator U?
Ultralow Noise XFET Voltage Reference with Current Sink and Source Capability, 4.096 V Output, 6.1 to 18 V Supply, Military, 8-pin SOIC (R-8), Tube; Manufacturer: Analog Devices; PartNumber: ADR434TRZ-EP; Max V Supply (V): 18; Min V Supply (V): 6.1; Ref Out TC (ppm/C): 1; Vout: 4.096V; DatasheetVersion: Rev. J; PackageVersion: 060506-A, 06/2006; PackageReference: R-8; PackageDescription: 8-Pin Standard Small Outline Package, Body 4.9 x 3.9 mm, Pitch 1.27 mm; Supplier 1: Digi-Key; Supplier Part Number 1: ADR434TRZ-EP-ND; Supplier 2: Mouser; Supplier Part Number 2: 584-ADR434TRZ-EP; Packing: Tube; Operating Temp Range: -40 to 125 degC; Mounting Technology: Surface Mount; Code_JEDEC: MS-012-AA; ComponentLink1Description: Manufacturer URL; ComponentLink1URL: http://www.analog.com/en/index.html; ComponentLink2Description: Datasheet; ComponentLink2URL: http://www.analog.com/static/imported-files/data_sheets/ADR430_431_433_434_435_439.pdf; ComponentLink3Description: Package Specification; ComponentLink3URL: http://www.analog.com/static/imported-files/packages/PKG_PDF/SOIC_Narrow%20(R)/R_8.pdf; ComponentLink4Description: URL Link1; ComponentLink4URL: Product URL:http://www.analog.com/en/special-linear-functions/voltage-references/adr434/products/product.html
footprint ADI-R-8_N (SOIC, 8-Leads, Body 4.9x3.9mm, Pitch 1.27mm, IPC Medium Density)
footprint ADI-R-8_L (SOIC, 8-Leads, Body 4.9x3.9mm, Pitch 1.27mm, IPC High Density)
footprint ADI-R-8_M (SOIC, 8-Leads, Body 4.9x3.9mm, Pitch 1.27mm, IPC Low Density)
part A pins: 2 VIN (power), 4 GND (power), 5 TRIM (in), 6 VOUT (power), 7 COMP
part B pins: 1 TP, 3 NC, 8 TP

## ADR434TRZ-EP-R7
designator U?
Ultralow Noise XFET Voltage Reference with Current Sink and Source Capability, 4.096 V Output, 6.1 to 18 V Supply, Military, 8-pin SOIC (R-8), Reel; Manufacturer: Analog Devices; PartNumber: ADR434TRZ-EP-R7; Max V Supply (V): 18; Min V Supply (V): 6.1; Ref Out TC (ppm/C): 1; Vout: 4.096V; DatasheetVersion: Rev. J; PackageVersion: 060506-A, 06/2006; PackageReference: R-8; PackageDescription: 8-Pin Standard Small Outline Package, Body 4.9 x 3.9 mm, Pitch 1.27 mm; Supplier 1: Digi-Key; Supplier Part Number 1: ADR434TRZ-EP-R7TR-ND; Supplier 2: Digi-Key; Supplier Part Number 2: ADR434TRZ-EP-R7CT-ND; Supplier 3: Digi-Key; Supplier Part Number 3: ADR434TRZ-EP-R7DKR-ND; Supplier 4: Mouser; Supplier Part Number 4: 584-ADR434TRZ-EP-R7; Packing: Reel; Operating Temp Range: -40 to 125 degC; Mounting Technology: Surface Mount; Code_JEDEC: MS-012-AA; ComponentLink1Description: Manufacturer URL; ComponentLink1URL: http://www.analog.com/en/index.html; ComponentLink2Description: Datasheet; ComponentLink2URL: http://www.analog.com/static/imported-files/data_sheets/ADR430_431_433_434_435_439.pdf; ComponentLink3Description: Package Specification; ComponentLink3URL: http://www.analog.com/static/imported-files/packages/PKG_PDF/SOIC_Narrow%20(R)/R_8.pdf; ComponentLink4Description: URL Link1; ComponentLink4URL: Product URL:http://www.analog.com/en/special-linear-functions/voltage-references/adr434/products/product.html
footprint ADI-R-8_N (SOIC, 8-Leads, Body 4.9x3.9mm, Pitch 1.27mm, IPC Medium Density)
footprint ADI-R-8_L (SOIC, 8-Leads, Body 4.9x3.9mm, Pitch 1.27mm, IPC High Density)
footprint ADI-R-8_M (SOIC, 8-Leads, Body 4.9x3.9mm, Pitch 1.27mm, IPC Low Density)
part A pins: 2 VIN (power), 4 GND (power), 5 TRIM (in), 6 VOUT (power), 7 COMP
part B pins: 1 TP, 3 NC, 8 TP

## ADR435ARMZ
designator U?
Ultralow Noise XFET Voltage Reference with Current Sink and Source Capability, 5 V Output, 7 to 18 V Supply, Industrial, 8-pin SOP (RM-8), Tube; Manufacturer: Analog Devices; PartNumber: ADR435ARMZ; Max V Supply (V): 18; Min V Supply (V): 7; Ref Out TC (ppm/C): 2; Vout: 5V; DatasheetVersion: Rev. J; PackageVersion: Aug-05; PackageReference: RM-8; PackageDescription: 8-Pin Mini Small Outline Package, Body 3 x 3 mm, Pitch 0.65 mm; Supplier 1: Digi-Key; Supplier Part Number 1: ADR435ARMZ-ND; Supplier 2: Farnell; Supplier Part Number 2: 2305780; Supplier 3: Mouser; Supplier Part Number 3: 584-ADR435ARMZ; Packing: Tube; Operating Temp Range: -40 to 125 degC; Mounting Technology: Surface Mount; Code_JEDEC: MO-187-AA; ComponentLink1Description: Manufacturer URL; ComponentLink1URL: http://www.analog.com/en/index.html; ComponentLink2Description: Datasheet; ComponentLink2URL: http://www.analog.com/static/imported-files/data_sheets/ADR430_431_433_434_435_439.pdf; ComponentLink3Description: Package Specification; ComponentLink3URL: http://www.analog.com/static/imported-files/packages/PKG_PDF/MSOP%28RM%29/RM_8.pdf; ComponentLink4Description: URL Link1; ComponentLink4URL: Product URL:http://www.analog.com/en/special-linear-functions/voltage-references/adr435/products/product.html
footprint ADI-RM-8_N (SOP, 8-Leads, Body 3x3mm, Pitch 0.65mm, IPC Medium Density)
footprint ADI-RM-8_L (SOP, 8-Leads, Body 3x3mm, Pitch 0.65mm, IPC High Density)
footprint ADI-RM-8_M (SOP, 8-Leads, Body 3x3mm, Pitch 0.65mm, IPC Low Density)
part A pins: 2 VIN (power), 4 GND (power), 5 TRIM (in), 6 VOUT (power), 7 COMP
part B pins: 1 TP, 3 NC, 8 TP

## ADR435ARMZ-REEL7
designator U?
Ultralow Noise XFET Voltage Reference with Current Sink and Source Capability, 5 V Output, 7 to 18 V Supply, Industrial, 8-pin SOP (RM-8), Reel; Manufacturer: Analog Devices; PartNumber: ADR435ARMZ-REEL7; Max V Supply (V): 18; Min V Supply (V): 7; Ref Out TC (ppm/C): 2; Vout: 5V; DatasheetVersion: Rev. J; PackageVersion: Aug-05; PackageReference: RM-8; PackageDescription: 8-Pin Mini Small Outline Package, Body 3 x 3 mm, Pitch 0.65 mm; Supplier 1: Digi-Key; Supplier Part Number 1: ADR435ARMZ-REEL7TR-ND; Supplier 2: Digi-Key; Supplier Part Number 2: ADR435ARMZ-REEL7CT-ND; Supplier 3: Digi-Key; Supplier Part Number 3: ADR435ARMZ-REEL7DKR-ND; Supplier 4: Mouser; Supplier Part Number 4: 584-ADR435ARMZ-R7; Packing: Reel; Operating Temp Range: -40 to 125 degC; Mounting Technology: Surface Mount; Code_JEDEC: MO-187-AA; ComponentLink1Description: Manufacturer URL; ComponentLink1URL: http://www.analog.com/en/index.html; ComponentLink2Description: Datasheet; ComponentLink2URL: http://www.analog.com/static/imported-files/data_sheets/ADR430_431_433_434_435_439.pdf; ComponentLink3Description: Package Specification; ComponentLink3URL: http://www.analog.com/static/imported-files/packages/PKG_PDF/MSOP%28RM%29/RM_8.pdf; ComponentLink4Description: URL Link1; ComponentLink4URL: Product URL:http://www.analog.com/en/special-linear-functions/voltage-references/adr435/products/product.html
footprint ADI-RM-8_N (SOP, 8-Leads, Body 3x3mm, Pitch 0.65mm, IPC Medium Density)
footprint ADI-RM-8_L (SOP, 8-Leads, Body 3x3mm, Pitch 0.65mm, IPC High Density)
footprint ADI-RM-8_M (SOP, 8-Leads, Body 3x3mm, Pitch 0.65mm, IPC Low Density)
part A pins: 2 VIN (power), 4 GND (power), 5 TRIM (in), 6 VOUT (power), 7 COMP
part B pins: 1 TP, 3 NC, 8 TP

## ADR435ARZ
designator U?
Ultralow Noise XFET Voltage Reference with Current Sink and Source Capability, 5 V Output, 7 to 18 V Supply, Industrial, 8-pin SOIC (R-8), Tube; Manufacturer: Analog Devices; PartNumber: ADR435ARZ; Max V Supply (V): 18; Min V Supply (V): 7; Ref Out TC (ppm/C): 2; Vout: 5V; DatasheetVersion: Rev. J; PackageVersion: 060506-A, 06/2006; PackageReference: R-8; PackageDescription: 8-Pin Standard Small Outline Package, Body 4.9 x 3.9 mm, Pitch 1.27 mm; Supplier 1: Digi-Key; Supplier Part Number 1: ADR435ARZ-ND; Supplier 2: Farnell; Supplier Part Number 2: 1438995; Supplier 3: Mouser; Supplier Part Number 3: 584-ADR435ARZ; Packing: Tube; Operating Temp Range: -40 to 125 degC; Mounting Technology: Surface Mount; Code_JEDEC: MS-012-AA; ComponentLink1Description: Manufacturer URL; ComponentLink1URL: http://www.analog.com/en/index.html; ComponentLink2Description: Datasheet; ComponentLink2URL: http://www.analog.com/static/imported-files/data_sheets/ADR430_431_433_434_435_439.pdf; ComponentLink3Description: Package Specification; ComponentLink3URL: http://www.analog.com/static/imported-files/packages/PKG_PDF/SOIC_Narrow%20(R)/R_8.pdf; ComponentLink4Description: URL Link1; ComponentLink4URL: Product URL:http://www.analog.com/en/special-linear-functions/voltage-references/adr435/products/product.html
footprint ADI-R-8_N (SOIC, 8-Leads, Body 4.9x3.9mm, Pitch 1.27mm, IPC Medium Density)
footprint ADI-R-8_L (SOIC, 8-Leads, Body 4.9x3.9mm, Pitch 1.27mm, IPC High Density)
footprint ADI-R-8_M (SOIC, 8-Leads, Body 4.9x3.9mm, Pitch 1.27mm, IPC Low Density)
part A pins: 2 VIN (power), 4 GND (power), 5 TRIM (in), 6 VOUT (power), 7 COMP
part B pins: 1 TP, 3 NC, 8 TP

## ADR435ARZ-REEL7
designator U?
Ultralow Noise XFET Voltage Reference with Current Sink and Source Capability, 5 V Output, 7 to 18 V Supply, Industrial, 8-pin SOIC (R-8), Reel; Manufacturer: Analog Devices; PartNumber: ADR435ARZ-REEL7; Max V Supply (V): 18; Min V Supply (V): 7; Ref Out TC (ppm/C): 2; Vout: 5V; DatasheetVersion: Rev. J; PackageVersion: 060506-A, 06/2006; PackageReference: R-8; PackageDescription: 8-Pin Standard Small Outline Package, Body 4.9 x 3.9 mm, Pitch 1.27 mm; Supplier 1: Digi-Key; Supplier Part Number 1: ADR435ARZ-REEL7-ND; Supplier 2: Mouser; Supplier Part Number 2: 584-ADR435ARZ-R7; Packing: Reel; Operating Temp Range: -40 to 125 degC; Mounting Technology: Surface Mount; Code_JEDEC: MS-012-AA; ComponentLink1Description: Manufacturer URL; ComponentLink1URL: http://www.analog.com/en/index.html; ComponentLink2Description: Datasheet; ComponentLink2URL: http://www.analog.com/static/imported-files/data_sheets/ADR430_431_433_434_435_439.pdf; ComponentLink3Description: Package Specification; ComponentLink3URL: http://www.analog.com/static/imported-files/packages/PKG_PDF/SOIC_Narrow%20(R)/R_8.pdf; ComponentLink4Description: URL Link1; ComponentLink4URL: Product URL:http://www.analog.com/en/special-linear-functions/voltage-references/adr435/products/product.html
footprint ADI-R-8_N (SOIC, 8-Leads, Body 4.9x3.9mm, Pitch 1.27mm, IPC Medium Density)
footprint ADI-R-8_L (SOIC, 8-Leads, Body 4.9x3.9mm, Pitch 1.27mm, IPC High Density)
footprint ADI-R-8_M (SOIC, 8-Leads, Body 4.9x3.9mm, Pitch 1.27mm, IPC Low Density)
part A pins: 2 VIN (power), 4 GND (power), 5 TRIM (in), 6 VOUT (power), 7 COMP
part B pins: 1 TP, 3 NC, 8 TP

## ADR435BRMZ
designator U?
Ultralow Noise XFET Voltage Reference with Current Sink and Source Capability, 5 V Output, 7 to 18 V Supply, Industrial, 8-pin SOP (RM-8), Tube; Manufacturer: Analog Devices; PartNumber: ADR435BRMZ; Max V Supply (V): 18; Min V Supply (V): 7; Ref Out TC (ppm/C): 1; Vout: 5V; DatasheetVersion: Rev. J; PackageVersion: Aug-05; PackageReference: RM-8; PackageDescription: 8-Pin Mini Small Outline Package, Body 3 x 3 mm, Pitch 0.65 mm; Supplier 1: Digi-Key; Supplier Part Number 1: ADR435BRMZ-ND; Supplier 2: Mouser; Supplier Part Number 2: 584-ADR435BRMZ; Packing: Tube; Operating Temp Range: -40 to 125 degC; Mounting Technology: Surface Mount; Code_JEDEC: MO-187-AA; ComponentLink1Description: Manufacturer URL; ComponentLink1URL: http://www.analog.com/en/index.html; ComponentLink2Description: Datasheet; ComponentLink2URL: http://www.analog.com/static/imported-files/data_sheets/ADR430_431_433_434_435_439.pdf; ComponentLink3Description: Package Specification; ComponentLink3URL: http://www.analog.com/static/imported-files/packages/PKG_PDF/MSOP%28RM%29/RM_8.pdf; ComponentLink4Description: URL Link1; ComponentLink4URL: Product URL:http://www.analog.com/en/special-linear-functions/voltage-references/adr435/products/product.html
footprint ADI-RM-8_N (SOP, 8-Leads, Body 3x3mm, Pitch 0.65mm, IPC Medium Density)
footprint ADI-RM-8_L (SOP, 8-Leads, Body 3x3mm, Pitch 0.65mm, IPC High Density)
footprint ADI-RM-8_M (SOP, 8-Leads, Body 3x3mm, Pitch 0.65mm, IPC Low Density)
part A pins: 2 VIN (power), 4 GND (power), 5 TRIM (in), 6 VOUT (power), 7 COMP
part B pins: 1 TP, 3 NC, 8 TP

## ADR435BRMZ-R7
designator U?
Ultralow Noise XFET Voltage Reference with Current Sink and Source Capability, 5 V Output, 7 to 18 V Supply, Industrial, 8-pin SOP (RM-8), Reel; Manufacturer: Analog Devices; PartNumber: ADR435BRMZ-R7; Max V Supply (V): 18; Min V Supply (V): 7; Ref Out TC (ppm/C): 1; Vout: 5V; DatasheetVersion: Rev. J; PackageVersion: Aug-05; PackageReference: RM-8; PackageDescription: 8-Pin Mini Small Outline Package, Body 3 x 3 mm, Pitch 0.65 mm; Supplier 1: Digi-Key; Supplier Part Number 1: ADR435BRMZ-R7-ND; Supplier 2: Mouser; Supplier Part Number 2: 584-ADR435BRMZ-R7; Packing: Reel; Operating Temp Range: -40 to 125 degC; Mounting Technology: Surface Mount; Code_JEDEC: MO-187-AA; ComponentLink1Description: Manufacturer URL; ComponentLink1URL: http://www.analog.com/en/index.html; ComponentLink2Description: Datasheet; ComponentLink2URL: http://www.analog.com/static/imported-files/data_sheets/ADR430_431_433_434_435_439.pdf; ComponentLink3Description: Package Specification; ComponentLink3URL: http://www.analog.com/static/imported-files/packages/PKG_PDF/MSOP%28RM%29/RM_8.pdf; ComponentLink4Description: URL Link1; ComponentLink4URL: Product URL:http://www.analog.com/en/special-linear-functions/voltage-references/adr435/products/product.html
footprint ADI-RM-8_N (SOP, 8-Leads, Body 3x3mm, Pitch 0.65mm, IPC Medium Density)
footprint ADI-RM-8_L (SOP, 8-Leads, Body 3x3mm, Pitch 0.65mm, IPC High Density)
footprint ADI-RM-8_M (SOP, 8-Leads, Body 3x3mm, Pitch 0.65mm, IPC Low Density)
part A pins: 2 VIN (power), 4 GND (power), 5 TRIM (in), 6 VOUT (power), 7 COMP
part B pins: 1 TP, 3 NC, 8 TP

## ADR435BRZ
designator U?
Ultralow Noise XFET Voltage Reference with Current Sink and Source Capability, 5 V Output, 7 to 18 V Supply, Industrial, 8-pin SOIC (R-8), Tube; Manufacturer: Analog Devices; PartNumber: ADR435BRZ; Max V Supply (V): 18; Min V Supply (V): 7; Ref Out TC (ppm/C): 1; Vout: 5V; DatasheetVersion: Rev. J; PackageVersion: 060506-A, 06/2006; PackageReference: R-8; PackageDescription: 8-Pin Standard Small Outline Package, Body 4.9 x 3.9 mm, Pitch 1.27 mm; Supplier 1: Digi-Key; Supplier Part Number 1: ADR435BRZ-ND; Supplier 2: Farnell; Supplier Part Number 2: 2305782; Supplier 3: Mouser; Supplier Part Number 3: 584-ADR435BRZ; Packing: Tube; Operating Temp Range: -40 to 125 degC; Mounting Technology: Surface Mount; Code_JEDEC: MS-012-AA; ComponentLink1Description: Manufacturer URL; ComponentLink1URL: http://www.analog.com/en/index.html; ComponentLink2Description: Datasheet; ComponentLink2URL: http://www.analog.com/static/imported-files/data_sheets/ADR430_431_433_434_435_439.pdf; ComponentLink3Description: Package Specification; ComponentLink3URL: http://www.analog.com/static/imported-files/packages/PKG_PDF/SOIC_Narrow%20(R)/R_8.pdf; ComponentLink4Description: URL Link1; ComponentLink4URL: Product URL:http://www.analog.com/en/special-linear-functions/voltage-references/adr435/products/product.html
footprint ADI-R-8_N (SOIC, 8-Leads, Body 4.9x3.9mm, Pitch 1.27mm, IPC Medium Density)
footprint ADI-R-8_L (SOIC, 8-Leads, Body 4.9x3.9mm, Pitch 1.27mm, IPC High Density)
footprint ADI-R-8_M (SOIC, 8-Leads, Body 4.9x3.9mm, Pitch 1.27mm, IPC Low Density)
part A pins: 2 VIN (power), 4 GND (power), 5 TRIM (in), 6 VOUT (power), 7 COMP
part B pins: 1 TP, 3 NC, 8 TP

## ADR435BRZ-REEL7
designator U?
Ultralow Noise XFET Voltage Reference with Current Sink and Source Capability, 5 V Output, 7 to 18 V Supply, Industrial, 8-pin SOIC (R-8), Reel; Manufacturer: Analog Devices; PartNumber: ADR435BRZ-REEL7; Max V Supply (V): 18; Min V Supply (V): 7; Ref Out TC (ppm/C): 1; Vout: 5V; DatasheetVersion: Rev. J; PackageVersion: 060506-A, 06/2006; PackageReference: R-8; PackageDescription: 8-Pin Standard Small Outline Package, Body 4.9 x 3.9 mm, Pitch 1.27 mm; Supplier 1: Digi-Key; Supplier Part Number 1: ADR435BRZ-REEL7TR-ND; Supplier 2: Digi-Key; Supplier Part Number 2: ADR435BRZ-REEL7CT-ND; Supplier 3: Digi-Key; Supplier Part Number 3: ADR435BRZ-REEL7DKR-ND; Supplier 4: Mouser; Supplier Part Number 4: 584-ADR435BRZ-R7; Packing: Reel; Operating Temp Range: -40 to 125 degC; Mounting Technology: Surface Mount; Code_JEDEC: MS-012-AA; ComponentLink1Description: Manufacturer URL; ComponentLink1URL: http://www.analog.com/en/index.html; ComponentLink2Description: Datasheet; ComponentLink2URL: http://www.analog.com/static/imported-files/data_sheets/ADR430_431_433_434_435_439.pdf; ComponentLink3Description: Package Specification; ComponentLink3URL: http://www.analog.com/static/imported-files/packages/PKG_PDF/SOIC_Narrow%20(R)/R_8.pdf; ComponentLink4Description: URL Link1; ComponentLink4URL: Product URL:http://www.analog.com/en/special-linear-functions/voltage-references/adr435/products/product.html
footprint ADI-R-8_N (SOIC, 8-Leads, Body 4.9x3.9mm, Pitch 1.27mm, IPC Medium Density)
footprint ADI-R-8_L (SOIC, 8-Leads, Body 4.9x3.9mm, Pitch 1.27mm, IPC High Density)
footprint ADI-R-8_M (SOIC, 8-Leads, Body 4.9x3.9mm, Pitch 1.27mm, IPC Low Density)
part A pins: 2 VIN (power), 4 GND (power), 5 TRIM (in), 6 VOUT (power), 7 COMP
part B pins: 1 TP, 3 NC, 8 TP